# Altium schematic symbol library pporyzala-TI_Lighting.SchLib: 745 symbols (part 11 of 48)
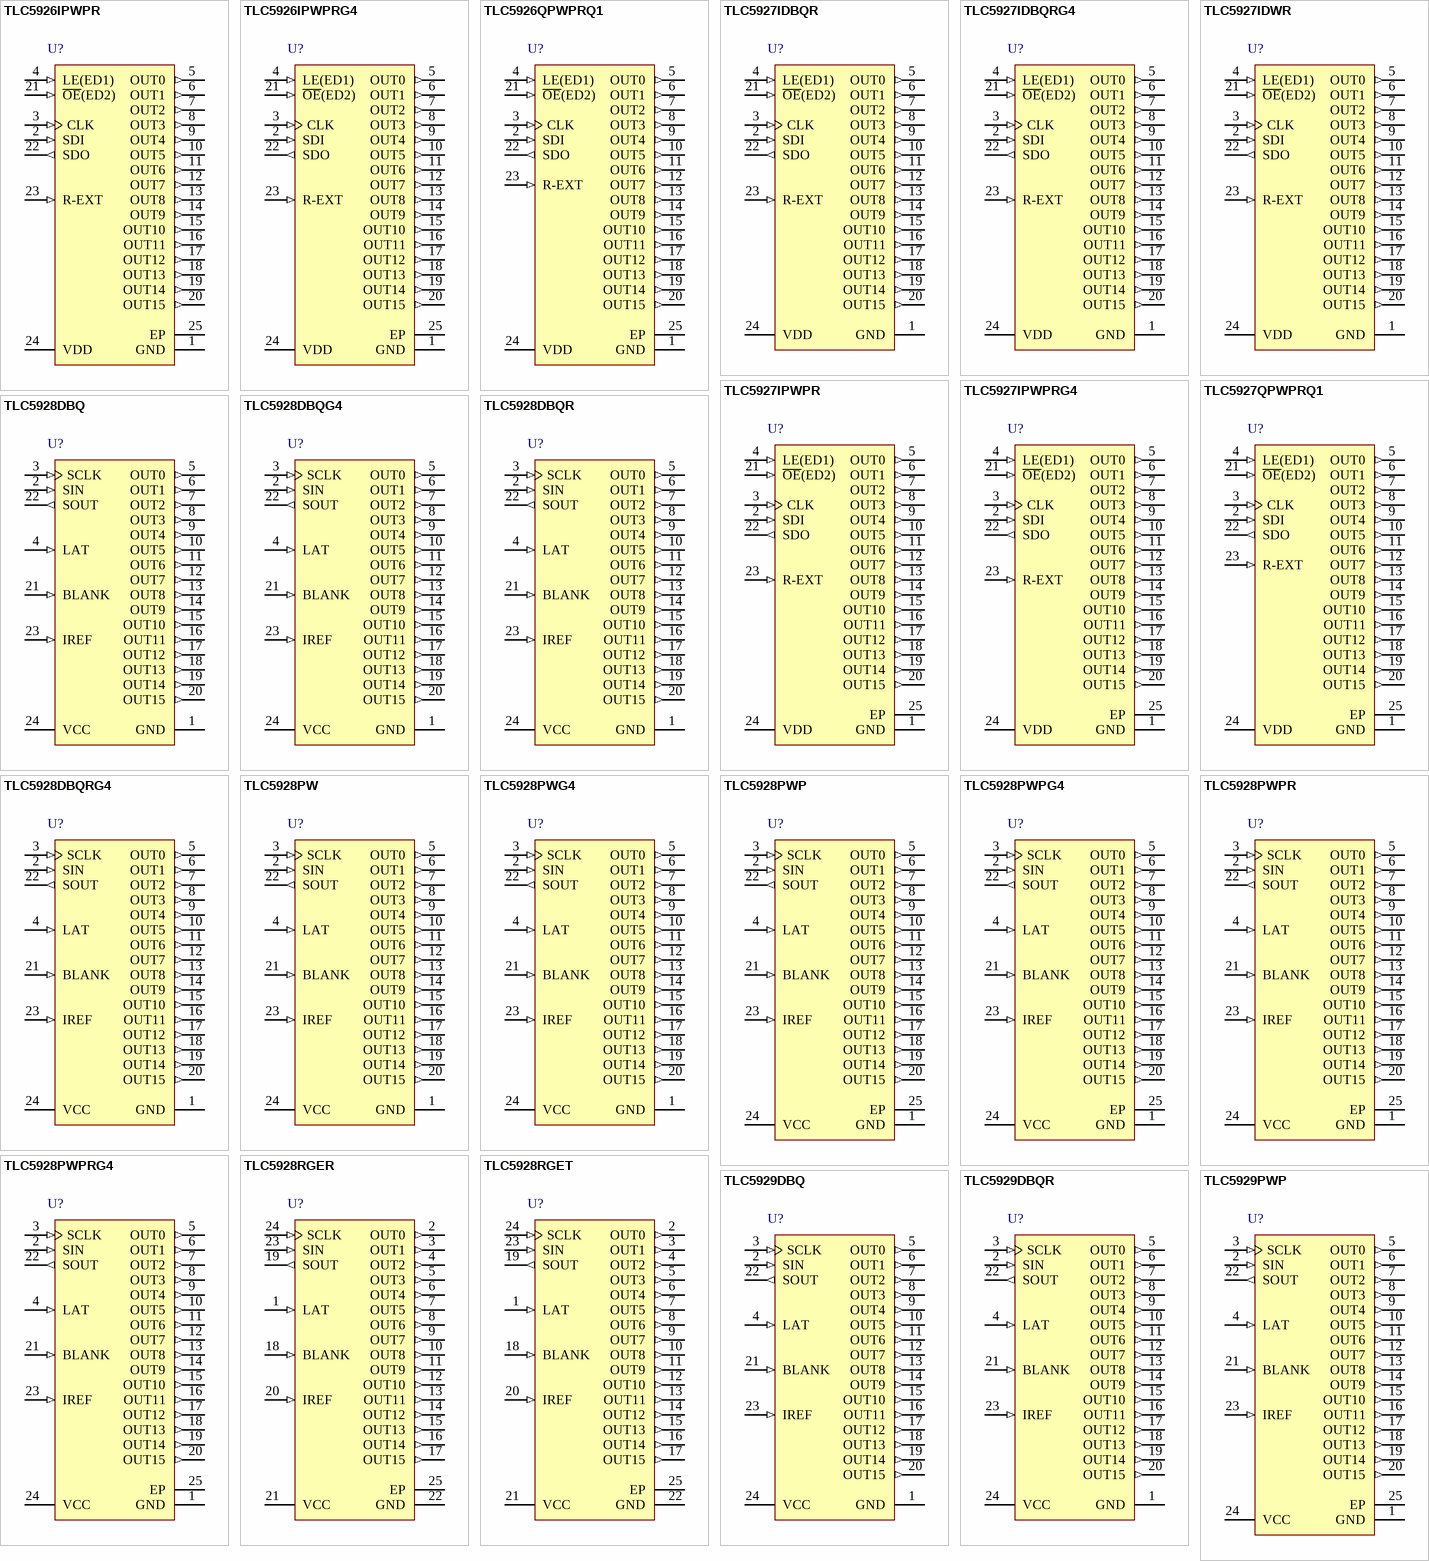
[diagram p41: symbols TLC5926IPWPR to TLC5929PWP]

## TLC5929PWP
designator U?
16-Channel Constant Current LED Driver with 7-Bit Global Brightness, Power-Save, and Self-Diagnostics, 3 to 5.5 V, -40 to 85 degC, 24-pin SOP (PWP24), Green (RoHS & no Sb/Br); Manufacturer: Texas Instruments; PartNumber: TLC5929PWP; Rating: Catalog; SubFamily: Signage/Linear; Vin(Max)(V): 5.5; Vin(Min)(V): 3; DatasheetVersion: SBVS159B; PackageVersion: 4073225-5/I; PackageReference: PWP24-4420X1950TP; PackageDescription: 24-Lead, Plastic Small Outline, Body Size 4.4 x 7.8 mm, Pitch 0.65 mm; Supplier 1: Digi-Key; Supplier Part Number 1: 296-28534-5-ND; Supplier 2: Mouser; Supplier Part Number 2: 595-TLC5929PWP; Eco-Plan: Green (RoHS & no Sb/Br); Mounting Technology: Surface Mount; Code_JEDEC: MO-153; ComponentLink1Description: Manufacturer URL; ComponentLink1URL: http://www.ti.com/; ComponentLink2Description: Datasheet; ComponentLink2URL: http://www.ti.com/general/docs/lit/getliterature.tsp?genericPartNumber=TLC5929&fileType=pdf; ComponentLink3Description: Package Specification; ComponentLink3URL: http://www.ti.com/lit/ds/symlink/tps65101.pdf
footprint TI-PWP24-4420X1950TP_N (SOP, 24-Leads, Body 7.8x4.4mm, Pitch 0.65mm, Thermal Pad 4.42x1.95mm, IPC Medium Density)
footprint TI-PWP24-4420X1950TP_L (SOP, 24-Leads, Body 7.8x4.4mm, Pitch 0.65mm, Thermal Pad 4.42x1.95mm, IPC High Density)
footprint TI-PWP24-4420X1950TP_M (SOP, 24-Leads, Body 7.8x4.4mm, Pitch 0.65mm, Thermal Pad 4.42x1.95mm, IPC Low Density)
pins: 1 GND (power) "Ground", 2 SIN (in) "Serial data input for the 17-bit common shift register .When SIN is high, a '1' is written to the LSB of the common shift register at the rising edge of SCLK.", 3 SCLK (in) "Serial data shift clock. Data present on SIN are shifted to the LSB of the 17-bit shift register with the SCLK rising edge. Data in the shift register are shifted toward the MSB at each SCLK rising edge. The MSB data of the (See Datasheet)", 4 LAT (in) "Data latch. The rising edge of LAT latches the data from the common shift register into the output on/off data latch. At the same time,the data in the common shift register are replaced with  SID,which is selected by SIDLD.(See Datasheet)", 5 OUT0 (out) "Constant-current sink outputs. Multiple outputs can be configured in parallel to increase the constant-current capability. Different voltages can be applied to each output.", 6 OUT1 (out) "Constant-current sink outputs. Multiple outputs can be configured in parallel to increase the constant-current capability. Different voltages can be applied to each output.", 7 OUT2 (out) "Constant-current sink outputs. Multiple outputs can be configured in parallel to increase the constant-current capability. Different voltages can be applied to each output.", 8 OUT3 (out) "Constant-current sink outputs. Multiple outputs can be configured in parallel to increase the constant-current capability. Different voltages can be applied to each output.", 9 OUT4 (out) "Constant-current sink outputs. Multiple outputs can be configured in parallel to increase the constant-current capability. Different voltages can be applied to each output.", 10 OUT5 (out) "Constant-current sink outputs. Multiple outputs can be configured in parallel to increase the constant-current capability. Different voltages can be applied to each output.", 11 OUT6 (out) "Constant-current sink outputs. Multiple outputs can be configured in parallel to increase the constant-current capability. Different voltages can be applied to each output.", 12 OUT7 (out) "Constant-current sink outputs. Multiple outputs can be configured in parallel to increase the constant-current capability. Different voltages can be applied to each output.", 13 OUT8 (out) "Constant-current sink outputs. Multiple outputs can be configured in parallel to increase the constant-current capability. Different voltages can be applied to each output.", 14 OUT9 (out) "Constant-current sink outputs. Multiple outputs can be configured in parallel to increase the constant-current capability. Different voltages can be applied to each output.", 15 OUT10 (out) "Constant-current sink outputs. Multiple outputs can be configured in parallel to increase the constant-current capability. Different voltages can be applied to each output.", 16 OUT11 (out) "Constant-current sink outputs. Multiple outputs can be configured in parallel to increase the constant-current capability. Different voltages can be applied to each output.", 17 OUT12 (out) "Constant-current sink outputs. Multiple outputs can be configured in parallel to increase the constant-current capability. Different voltages can be applied to each output.", 18 OUT13 (out) "Constant-current sink outputs. Multiple outputs can be configured in parallel to increase the constant-current capability. Different voltages can be applied to each output.", 19 OUT14 (out) "Constant-current sink outputs. Multiple outputs can be configured in parallel to increase the constant-current capability. Different voltages can be applied to each output.", 20 OUT15 (out) "Constant-current sink outputs. Multiple outputs can be configured in parallel to increase the constant-current capability. Different voltages can be applied to each output.", 21 BLANK (in) "Blank all outputs. When BLANK is high, all constant-current outputs (OUT0 to OUT15) are forced off. When BLANK is low, all constant-current outputs are controlled by the on/off control data in the data latch.", 22 SOUT (out) "Serial data output of  the 17-bit common shift register .SOUT is connected to the MSB of the 17-bit shift register.Data are clocked out at the rising edge of SCLK.", 23 IREF (in) "Maximum current programming terminal. A resistor connected between IREF and GND sets the maximum current for every constant-current output. When this terminal is directly connected to GND,all outputs are forced off.The (See Datasheet)", 24 VCC (power) "Power-supply voltage", 25 EP

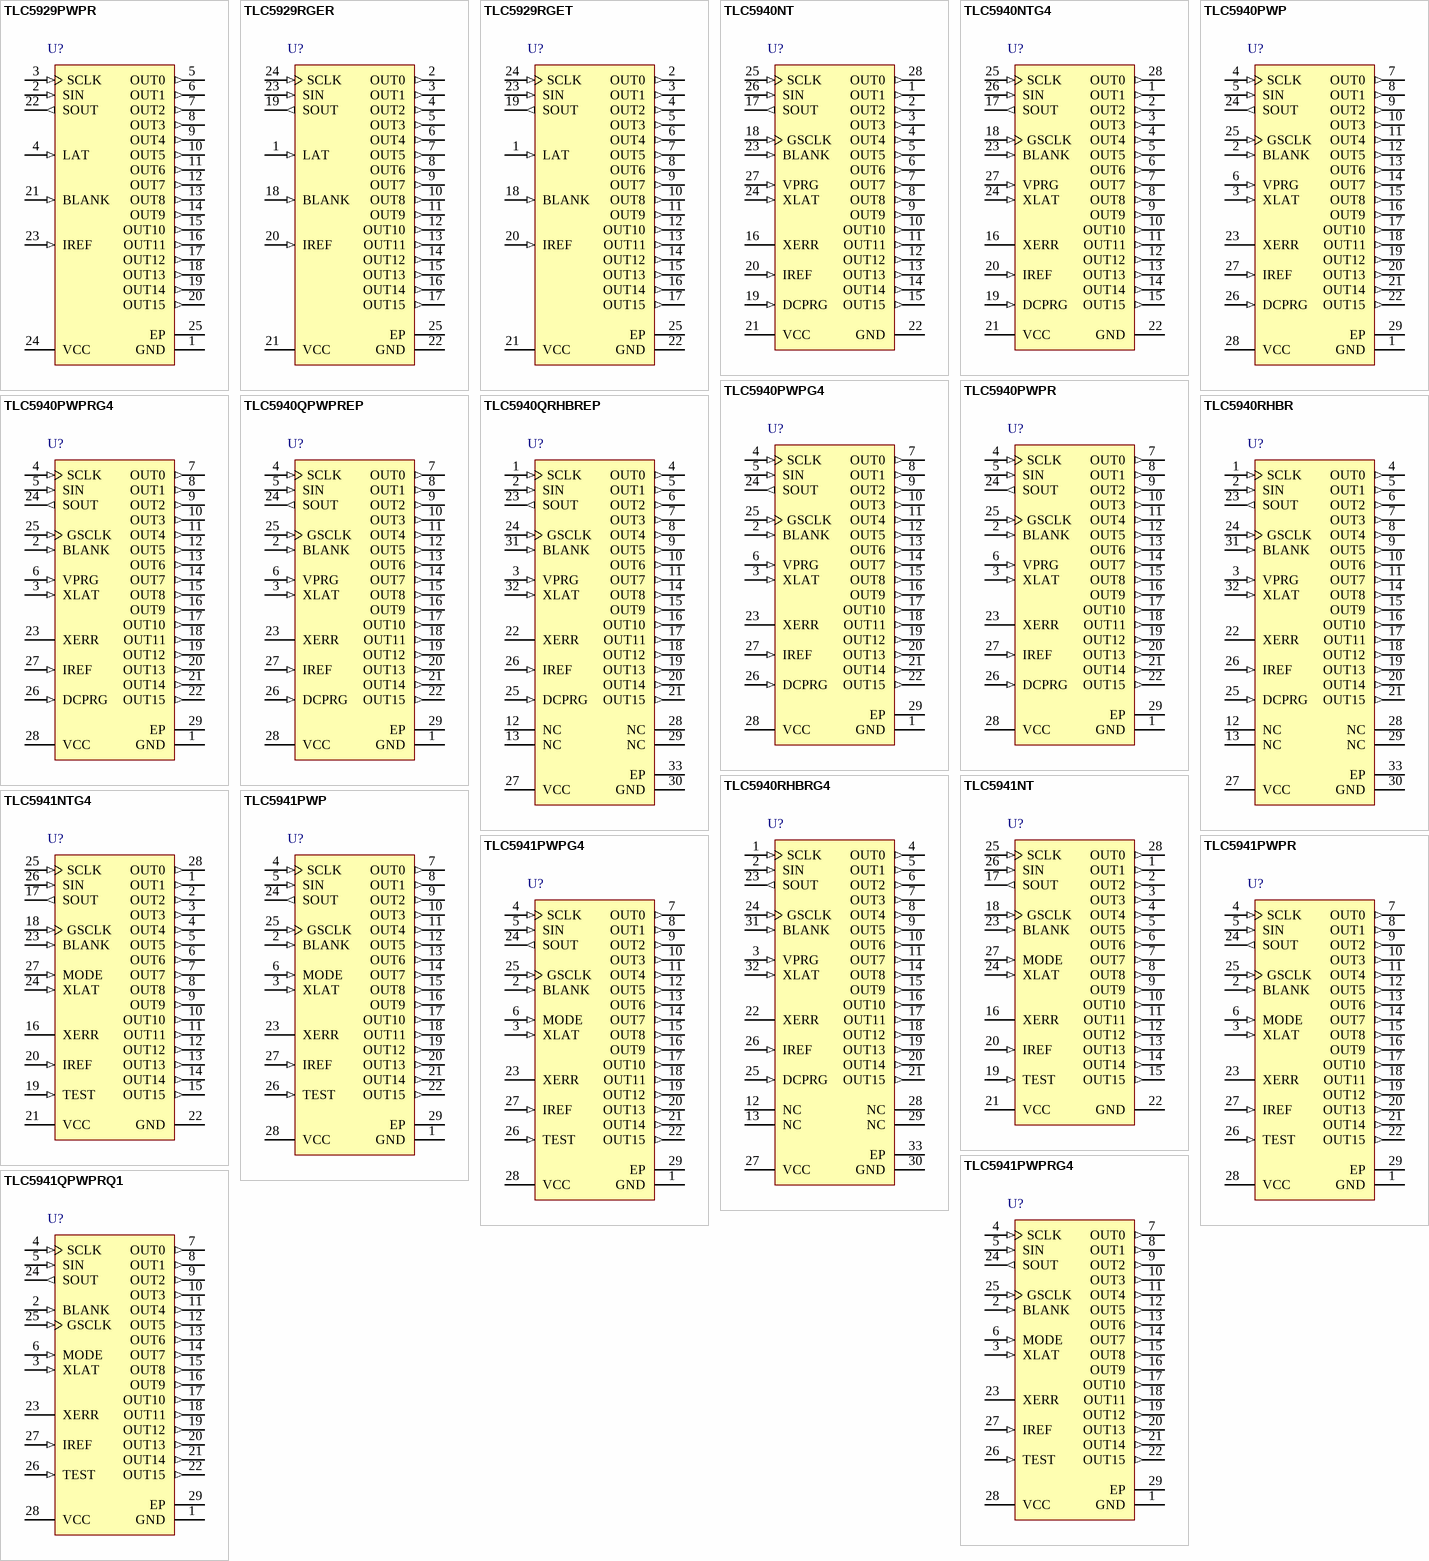
[diagram p8: symbols TLC5929PWPR to TLC5941QPWPRQ1]

## TLC5929PWPR
designator U?
16-Channel Constant Current LED Driver with 7-Bit Global Brightness, Power-Save, and Self-Diagnostics, 3 to 5.5 V, -40 to 85 degC, 24-pin SOP (PWP24), Green (RoHS & no Sb/Br); Manufacturer: Texas Instruments; PartNumber: TLC5929PWPR; Rating: Catalog; SubFamily: Signage/Linear; Vin(Max)(V): 5.5; Vin(Min)(V): 3; DatasheetVersion: SBVS159B; PackageVersion: 4073225-5/I; PackageReference: PWP24-4420X1950TP; PackageDescription: 24-Lead, Plastic Small Outline, Body Size 4.4 x 7.8 mm, Pitch 0.65 mm; Supplier 1: Digi-Key; Supplier Part Number 1: TLC5929PWPR-ND; Supplier 2: Mouser; Supplier Part Number 2: 595-TLC5929PWPR; Eco-Plan: Green (RoHS & no Sb/Br); Mounting Technology: Surface Mount; Code_JEDEC: MO-153; ComponentLink1Description: Manufacturer URL; ComponentLink1URL: http://www.ti.com/; ComponentLink2Description: Datasheet; ComponentLink2URL: http://www.ti.com/general/docs/lit/getliterature.tsp?genericPartNumber=TLC5929&fileType=pdf; ComponentLink3Description: Package Specification; ComponentLink3URL: http://www.ti.com/lit/ds/symlink/tps65101.pdf
footprint TI-PWP24-4420X1950TP_N (SOP, 24-Leads, Body 7.8x4.4mm, Pitch 0.65mm, Thermal Pad 4.42x1.95mm, IPC Medium Density)
footprint TI-PWP24-4420X1950TP_L (SOP, 24-Leads, Body 7.8x4.4mm, Pitch 0.65mm, Thermal Pad 4.42x1.95mm, IPC High Density)
footprint TI-PWP24-4420X1950TP_M (SOP, 24-Leads, Body 7.8x4.4mm, Pitch 0.65mm, Thermal Pad 4.42x1.95mm, IPC Low Density)
pins: 1 GND (power) "Ground", 2 SIN (in) "Serial data input for the 17-bit common shift register .When SIN is high, a '1' is written to the LSB of the common shift register at the rising edge of SCLK.", 3 SCLK (in) "Serial data shift clock. Data present on SIN are shifted to the LSB of the 17-bit shift register with the SCLK rising edge. Data in the shift register are shifted toward the MSB at each SCLK rising edge. The MSB data of the (See Datasheet)", 4 LAT (in) "Data latch. The rising edge of LAT latches the data from the common shift register into the output on/off data latch. At the same time,the data in the common shift register are replaced with  SID,which is selected by SIDLD.(See Datasheet)", 5 OUT0 (out) "Constant-current sink outputs. Multiple outputs can be configured in parallel to increase the constant-current capability. Different voltages can be applied to each output.", 6 OUT1 (out) "Constant-current sink outputs. Multiple outputs can be configured in parallel to increase the constant-current capability. Different voltages can be applied to each output.", 7 OUT2 (out) "Constant-current sink outputs. Multiple outputs can be configured in parallel to increase the constant-current capability. Different voltages can be applied to each output.", 8 OUT3 (out) "Constant-current sink outputs. Multiple outputs can be configured in parallel to increase the constant-current capability. Different voltages can be applied to each output.", 9 OUT4 (out) "Constant-current sink outputs. Multiple outputs can be configured in parallel to increase the constant-current capability. Different voltages can be applied to each output.", 10 OUT5 (out) "Constant-current sink outputs. Multiple outputs can be configured in parallel to increase the constant-current capability. Different voltages can be applied to each output.", 11 OUT6 (out) "Constant-current sink outputs. Multiple outputs can be configured in parallel to increase the constant-current capability. Different voltages can be applied to each output.", 12 OUT7 (out) "Constant-current sink outputs. Multiple outputs can be configured in parallel to increase the constant-current capability. Different voltages can be applied to each output.", 13 OUT8 (out) "Constant-current sink outputs. Multiple outputs can be configured in parallel to increase the constant-current capability. Different voltages can be applied to each output.", 14 OUT9 (out) "Constant-current sink outputs. Multiple outputs can be configured in parallel to increase the constant-current capability. Different voltages can be applied to each output.", 15 OUT10 (out) "Constant-current sink outputs. Multiple outputs can be configured in parallel to increase the constant-current capability. Different voltages can be applied to each output.", 16 OUT11 (out) "Constant-current sink outputs. Multiple outputs can be configured in parallel to increase the constant-current capability. Different voltages can be applied to each output.", 17 OUT12 (out) "Constant-current sink outputs. Multiple outputs can be configured in parallel to increase the constant-current capability. Different voltages can be applied to each output.", 18 OUT13 (out) "Constant-current sink outputs. Multiple outputs can be configured in parallel to increase the constant-current capability. Different voltages can be applied to each output.", 19 OUT14 (out) "Constant-current sink outputs. Multiple outputs can be configured in parallel to increase the constant-current capability. Different voltages can be applied to each output.", 20 OUT15 (out) "Constant-current sink outputs. Multiple outputs can be configured in parallel to increase the constant-current capability. Different voltages can be applied to each output.", 21 BLANK (in) "Blank all outputs. When BLANK is high, all constant-current outputs (OUT0 to OUT15) are forced off. When BLANK is low, all constant-current outputs are controlled by the on/off control data in the data latch.", 22 SOUT (out) "Serial data output of  the 17-bit common shift register .SOUT is connected to the MSB of the 17-bit shift register.Data are clocked out at the rising edge of SCLK.", 23 IREF (in) "Maximum current programming terminal. A resistor connected between IREF and GND sets the maximum current for every constant-current output. When this terminal is directly connected to GND,all outputs are forced off.The (See Datasheet)", 24 VCC (power) "Power-supply voltage", 25 EP

## TLC5929RGER
designator U?
16-Channel Constant Current LED Driver with 7-Bit Global Brightness, Power-Save, and Self-Diagnostics, 3 to 5.5 V, -40 to 85 degC, 24-pin QFN (RGE24), Green (RoHS & no Sb/Br); Manufacturer: Texas Instruments; PartNumber: TLC5929RGER; Rating: Catalog; SubFamily: Signage/Linear; Vin(Max)(V): 5.5; Vin(Min)(V): 3; DatasheetVersion: SBVS159B; PackageVersion: 4204104/G; PackageReference: RGE24-2450X2450TP; PackageDescription: 24-Pin Plastic Flat Pack, Body 4 x 4 mm, 0.5 mm Pitch; Supplier 1: Digi-Key; Supplier Part Number 1: 296-29699-2-ND; Supplier 2: Digi-Key; Supplier Part Number 2: 296-29699-1-ND; Supplier 3: Digi-Key; Supplier Part Number 3: 296-29699-6-ND; Supplier 4: Mouser; Supplier Part Number 4: 595-TLC5929RGER; Eco-Plan: Green (RoHS & no Sb/Br); Mounting Technology: Surface Mount; Code_JEDEC: MO-220; ComponentLink1Description: Manufacturer URL; ComponentLink1URL: http://www.ti.com/; ComponentLink2Description: Datasheet; ComponentLink2URL: http://www.ti.com/general/docs/lit/getliterature.tsp?genericPartNumber=TLC5929&fileType=pdf; ComponentLink3Description: Package Specification; ComponentLink3URL: http://www.ti.com/litv/pdf/mpqf124f
footprint TI-RGE24-2450X2450TP_V (QFN, 24-Leads, Body 4x4mm, Pitch 0.5mm, Thermal Pad 2.45x2.45mm)
pins: 1 LAT (in) "Data latch. The rising edge of LAT latches the data from the common shift register into the output on/off data latch. At the same time,the data in the common shift register are replaced with  SID,which is selected by SIDLD.(See Datasheet)", 2 OUT0 (out) "Constant-current sink outputs. Multiple outputs can be configured in parallel to increase the constant-current capability. Different voltages can be applied to each output.", 3 OUT1 (out) "Constant-current sink outputs. Multiple outputs can be configured in parallel to increase the constant-current capability. Different voltages can be applied to each output.", 4 OUT2 (out) "Constant-current sink outputs. Multiple outputs can be configured in parallel to increase the constant-current capability. Different voltages can be applied to each output.", 5 OUT3 (out) "Constant-current sink outputs. Multiple outputs can be configured in parallel to increase the constant-current capability. Different voltages can be applied to each output.", 6 OUT4 (out) "Constant-current sink outputs. Multiple outputs can be configured in parallel to increase the constant-current capability. Different voltages can be applied to each output.", 7 OUT5 (out) "Constant-current sink outputs. Multiple outputs can be configured in parallel to increase the constant-current capability. Different voltages can be applied to each output.", 8 OUT6 (out) "Constant-current sink outputs. Multiple outputs can be configured in parallel to increase the constant-current capability. Different voltages can be applied to each output.", 9 OUT7 (out) "Constant-current sink outputs. Multiple outputs can be configured in parallel to increase the constant-current capability. Different voltages can be applied to each output.", 10 OUT8 (out) "Constant-current sink outputs. Multiple outputs can be configured in parallel to increase the constant-current capability. Different voltages can be applied to each output.", 11 OUT9 (out) "Constant-current sink outputs. Multiple outputs can be configured in parallel to increase the constant-current capability. Different voltages can be applied to each output.", 12 OUT10 (out) "Constant-current sink outputs. Multiple outputs can be configured in parallel to increase the constant-current capability. Different voltages can be applied to each output.", 13 OUT11 (out) "Constant-current sink outputs. Multiple outputs can be configured in parallel to increase the constant-current capability. Different voltages can be applied to each output.", 14 OUT12 (out) "Constant-current sink outputs. Multiple outputs can be configured in parallel to increase the constant-current capability. Different voltages can be applied to each output.", 15 OUT13 (out) "Constant-current sink outputs. Multiple outputs can be configured in parallel to increase the constant-current capability. Different voltages can be applied to each output.", 16 OUT14 (out) "Constant-current sink outputs. Multiple outputs can be configured in parallel to increase the constant-current capability. Different voltages can be applied to each output.", 17 OUT15 (out) "Constant-current sink outputs. Multiple outputs can be configured in parallel to increase the constant-current capability. Different voltages can be applied to each output.", 18 BLANK (in) "Blank all outputs. When BLANK is high, all constant-current outputs (OUT0 to OUT15) are forced off. When BLANK is low, all constant-current outputs are controlled by the on/off control data in the data latch.", 19 SOUT (out) "Serial data output of  the 17-bit common shift register .SOUT is connected to the MSB of the 17-bit shift register.Data are clocked out at the rising edge of SCLK.", 20 IREF (in) "Maximum current programming terminal. A resistor connected between IREF and GND sets the maximum current for every constant-current output. When this terminal is directly connected to GND,all outputs are forced off.The (See Datasheet)", 21 VCC (power) "Power-supply voltage", 22 GND (power) "Ground", 23 SIN (in) "Serial data input for the 17-bit common shift register .When SIN is high, a '1' is written to the LSB of the common shift register at the rising edge of SCLK.", 24 SCLK (in) "Serial data shift clock. Data present on SIN are shifted to the LSB of the 17-bit shift register with the SCLK rising edge. Data in the shift register are shifted toward the MSB at each SCLK rising edge. The MSB data of the (See Datasheet)", 25 EP

## TLC5929RGET
designator U?
16-Channel Constant Current LED Driver with 7-Bit Global Brightness, Power-Save, and Self-Diagnostics, 3 to 5.5 V, -40 to 85 degC, 24-pin QFN (RGE24), Green (RoHS & no Sb/Br); Manufacturer: Texas Instruments; PartNumber: TLC5929RGET; Rating: Catalog; SubFamily: Signage/Linear; Vin(Max)(V): 5.5; Vin(Min)(V): 3; DatasheetVersion: SBVS159B; PackageVersion: 4204104/G; PackageReference: RGE24-2450X2450TP; PackageDescription: 24-Pin Plastic Flat Pack, Body 4 x 4 mm, 0.5 mm Pitch; Supplier 1: Digi-Key; Supplier Part Number 1: TLC5929RGET-ND; Supplier 2: Mouser; Supplier Part Number 2: 595-TLC5929RGET; Eco-Plan: Green (RoHS & no Sb/Br); Mounting Technology: Surface Mount; Code_JEDEC: MO-220; ComponentLink1Description: Manufacturer URL; ComponentLink1URL: http://www.ti.com/; ComponentLink2Description: Datasheet; ComponentLink2URL: http://www.ti.com/general/docs/lit/getliterature.tsp?genericPartNumber=TLC5929&fileType=pdf; ComponentLink3Description: Package Specification; ComponentLink3URL: http://www.ti.com/litv/pdf/mpqf124f
footprint TI-RGE24-2450X2450TP_V (QFN, 24-Leads, Body 4x4mm, Pitch 0.5mm, Thermal Pad 2.45x2.45mm)
pins: 1 LAT (in) "Data latch. The rising edge of LAT latches the data from the common shift register into the output on/off data latch. At the same time,the data in the common shift register are replaced with  SID,which is selected by SIDLD.(See Datasheet)", 2 OUT0 (out) "Constant-current sink outputs. Multiple outputs can be configured in parallel to increase the constant-current capability. Different voltages can be applied to each output.", 3 OUT1 (out) "Constant-current sink outputs. Multiple outputs can be configured in parallel to increase the constant-current capability. Different voltages can be applied to each output.", 4 OUT2 (out) "Constant-current sink outputs. Multiple outputs can be configured in parallel to increase the constant-current capability. Different voltages can be applied to each output.", 5 OUT3 (out) "Constant-current sink outputs. Multiple outputs can be configured in parallel to increase the constant-current capability. Different voltages can be applied to each output.", 6 OUT4 (out) "Constant-current sink outputs. Multiple outputs can be configured in parallel to increase the constant-current capability. Different voltages can be applied to each output.", 7 OUT5 (out) "Constant-current sink outputs. Multiple outputs can be configured in parallel to increase the constant-current capability. Different voltages can be applied to each output.", 8 OUT6 (out) "Constant-current sink outputs. Multiple outputs can be configured in parallel to increase the constant-current capability. Different voltages can be applied to each output.", 9 OUT7 (out) "Constant-current sink outputs. Multiple outputs can be configured in parallel to increase the constant-current capability. Different voltages can be applied to each output.", 10 OUT8 (out) "Constant-current sink outputs. Multiple outputs can be configured in parallel to increase the constant-current capability. Different voltages can be applied to each output.", 11 OUT9 (out) "Constant-current sink outputs. Multiple outputs can be configured in parallel to increase the constant-current capability. Different voltages can be applied to each output.", 12 OUT10 (out) "Constant-current sink outputs. Multiple outputs can be configured in parallel to increase the constant-current capability. Different voltages can be applied to each output.", 13 OUT11 (out) "Constant-current sink outputs. Multiple outputs can be configured in parallel to increase the constant-current capability. Different voltages can be applied to each output.", 14 OUT12 (out) "Constant-current sink outputs. Multiple outputs can be configured in parallel to increase the constant-current capability. Different voltages can be applied to each output.", 15 OUT13 (out) "Constant-current sink outputs. Multiple outputs can be configured in parallel to increase the constant-current capability. Different voltages can be applied to each output.", 16 OUT14 (out) "Constant-current sink outputs. Multiple outputs can be configured in parallel to increase the constant-current capability. Different voltages can be applied to each output.", 17 OUT15 (out) "Constant-current sink outputs. Multiple outputs can be configured in parallel to increase the constant-current capability. Different voltages can be applied to each output.", 18 BLANK (in) "Blank all outputs. When BLANK is high, all constant-current outputs (OUT0 to OUT15) are forced off. When BLANK is low, all constant-current outputs are controlled by the on/off control data in the data latch.", 19 SOUT (out) "Serial data output of  the 17-bit common shift register .SOUT is connected to the MSB of the 17-bit shift register.Data are clocked out at the rising edge of SCLK.", 20 IREF (in) "Maximum current programming terminal. A resistor connected between IREF and GND sets the maximum current for every constant-current output. When this terminal is directly connected to GND,all outputs are forced off.The (See Datasheet)", 21 VCC (power) "Power-supply voltage", 22 GND (power) "Ground", 23 SIN (in) "Serial data input for the 17-bit common shift register .When SIN is high, a '1' is written to the LSB of the common shift register at the rising edge of SCLK.", 24 SCLK (in) "Serial data shift clock. Data present on SIN are shifted to the LSB of the 17-bit shift register with the SCLK rising edge. Data in the shift register are shifted toward the MSB at each SCLK rising edge. The MSB data of the (See Datasheet)", 25 EP

## TLC5940NT
designator U?
16-Channel LED Driver with EEprom DOT Correction & Grayscale PWM Control, 3 to 5.5 V, -40 to 85 degC, 28-pin DIP (NT28), Green (RoHS & no Sb/Br); Manufacturer: Texas Instruments; PartNumber: TLC5940NT; Rating: Catalog; Vin(Max)(V): 5.5; Vin(Min)(V): 3; DatasheetVersion: SLVS515C; PackageVersion: 4040050/C; PackageReference: NT28; PackageDescription: 28-Lead, Plastic In-Line, Body Size 35.69 x 6.73 mm, Pitch 2.54 mm; Supplier 1: Digi-Key; Supplier Part Number 1: 296-17732-5-ND; Supplier 2: Farnell; Supplier Part Number 2: 1411383; Supplier 3: Newark; Supplier Part Number 3: 73J8328; Supplier 4: Mouser; Supplier Part Number 4: 595-TLC5940NT; Eco-Plan: Green (RoHS & no Sb/Br); SubFamily: LED Driver; Mounting Technology: Through Hole; ComponentLink1Description: Manufacturer URL; ComponentLink1URL: http://www.ti.com/; ComponentLink2Description: Datasheet; ComponentLink2URL: http://www.ti.com/general/docs/lit/getliterature.tsp?genericPartNumber=TLC5940&fileType=pdf; ComponentLink3Description: Package Specification; ComponentLink3URL: http://www.ti.com/lit/ml/mpdi004a/mpdi004a.pdf
footprint TI-NT28 (DIP, 28-Leads, Body 35.69x6.73mm, Pitch 2.54mm)
pins: 1 OUT1 (out) "Constant current output", 2 OUT2 (out) "Constant current output", 3 OUT3 (out) "Constant current output", 4 OUT4 (out) "Constant current output", 5 OUT5 (out) "Constant current output", 6 OUT6 (out) "Constant current output", 7 OUT7 (out) "Constant current output", 8 OUT8 (out) "Constant current output", 9 OUT9 (out) "Constant current output", 10 OUT10 (out) "Constant current output", 11 OUT11 (out) "Constant current output", 12 OUT12 (out) "Constant current output", 13 OUT13 (out) "Constant current output", 14 OUT14 (out) "Constant current output", 15 OUT15 (out) "Constant current output", 16 XERR (hiz) "Error output. XERR is an open-drain terminal. XERR goes L when LOD or TEF is detected.", 17 SOUT (out) "Serial data output", 18 GSCLK (in) "Reference clock for grayscale PWM control", 19 DCPRG (in) "Switch DC data input. When DCPRG = L, DC is connected to EEPROM. When DCPRG = H, DC is connected to the DC register. DCPRG also controls EEPROM writing, when VPRG = V(PRG). EEPROM data = 3Fh (default)", 20 IREF (in) "Reference current terminal", 21 VCC (power) "Power supply voltage", 22 GND (power) "Ground", 23 BLANK (in) "Blank all outputs.When BLANK = H,all OUTn outputs are forced OFF.GS counter is also reset. When BLANK=L,OUTn are controlled by grayscale PWM control.", 24 XLAT (in) "Level triggered latch signal. When XLAT = high, the TLC5940 writes data from the input shift register to either GS register (VPRG = low) or DC register (VPRG = high). When XLAT = low, the data in GS or DC register is held (See Datasheet)", 25 SCLK (in) "Serial data shift clock", 26 SIN (in) "Serial data input", 27 VPRG (in) "Multifunction input pin. When VPRG = GND, the device is in GS mode. When VPRG = VCC, the device is in DC mode. When VPRG = V(VPRG), DC register data can programmed into DC EEPROM with DCPRG=HIGH. EEPROM data = 3Fh (default)", 28 OUT0 (out) "Constant current output"

## TLC5940NTG4
designator U?
16-Channel LED Driver with EEprom DOT Correction & Grayscale PWM Control, 3 to 5.5 V, -40 to 85 degC, 28-pin DIP (NT28), Green (RoHS & no Sb/Br); Manufacturer: Texas Instruments; PartNumber: TLC5940NTG4; Rating: Catalog; Vin(Max)(V): 5.5; Vin(Min)(V): 3; DatasheetVersion: SLVS515C; PackageVersion: 4040050/C; PackageReference: NT28; PackageDescription: 28-Lead, Plastic In-Line, Body Size 35.69 x 6.73 mm, Pitch 2.54 mm; Supplier 1: Digi-Key; Supplier Part Number 1: TLC5940NTG4-ND; Supplier 2: Farnell; Supplier Part Number 2: 1226306; Supplier 3: Newark; Supplier Part Number 3: 05M1394; Supplier 4: Newark; Supplier Part Number 4: 73K9547; Supplier 5: Mouser; Supplier Part Number 5: 595-TLC5940NTG4; Eco-Plan: Green (RoHS & no Sb/Br); SubFamily: LED Driver; Mounting Technology: Through Hole; ComponentLink1Description: Manufacturer URL; ComponentLink1URL: http://www.ti.com/; ComponentLink2Description: Datasheet; ComponentLink2URL: http://www.ti.com/general/docs/lit/getliterature.tsp?genericPartNumber=TLC5940&fileType=pdf; ComponentLink3Description: Package Specification; ComponentLink3URL: http://www.ti.com/lit/ml/mpdi004a/mpdi004a.pdf
footprint TI-NT28 (DIP, 28-Leads, Body 35.69x6.73mm, Pitch 2.54mm)
pins: 1 OUT1 (out) "Constant current output", 2 OUT2 (out) "Constant current output", 3 OUT3 (out) "Constant current output", 4 OUT4 (out) "Constant current output", 5 OUT5 (out) "Constant current output", 6 OUT6 (out) "Constant current output", 7 OUT7 (out) "Constant current output", 8 OUT8 (out) "Constant current output", 9 OUT9 (out) "Constant current output", 10 OUT10 (out) "Constant current output", 11 OUT11 (out) "Constant current output", 12 OUT12 (out) "Constant current output", 13 OUT13 (out) "Constant current output", 14 OUT14 (out) "Constant current output", 15 OUT15 (out) "Constant current output", 16 XERR (hiz) "Error output. XERR is an open-drain terminal. XERR goes L when LOD or TEF is detected.", 17 SOUT (out) "Serial data output", 18 GSCLK (in) "Reference clock for grayscale PWM control", 19 DCPRG (in) "Switch DC data input. When DCPRG = L, DC is connected to EEPROM. When DCPRG = H, DC is connected to the DC register. DCPRG also controls EEPROM writing, when VPRG = V(PRG). EEPROM data = 3Fh (default)", 20 IREF (in) "Reference current terminal", 21 VCC (power) "Power supply voltage", 22 GND (power) "Ground", 23 BLANK (in) "Blank all outputs.When BLANK = H,all OUTn outputs are forced OFF.GS counter is also reset. When BLANK=L,OUTn are controlled by grayscale PWM control.", 24 XLAT (in) "Level triggered latch signal. When XLAT = high, the TLC5940 writes data from the input shift register to either GS register (VPRG = low) or DC register (VPRG = high). When XLAT = low, the data in GS or DC register is held (See Datasheet)", 25 SCLK (in) "Serial data shift clock", 26 SIN (in) "Serial data input", 27 VPRG (in) "Multifunction input pin. When VPRG = GND, the device is in GS mode. When VPRG = VCC, the device is in DC mode. When VPRG = V(VPRG), DC register data can programmed into DC EEPROM with DCPRG=HIGH. EEPROM data = 3Fh (default)", 28 OUT0 (out) "Constant current output"

## TLC5940PWP
designator U?
16-Channel LED Driver with EEprom DOT Correction & Grayscale PWM Control, 3 to 5.5 V, -40 to 85 degC, 28-pin SOP (PWP28), Green (RoHS & no Sb/Br); Manufacturer: Texas Instruments; PartNumber: TLC5940PWP; Rating: Catalog; Vin(Max)(V): 5.5; Vin(Min)(V): 3; DatasheetVersion: SLVS515C; PackageVersion: 4073225-6/I; PackageReference: PWP28-5720X1950TP; PackageDescription: 28-Pin Plastic Small Outline, Body 4.4 x 9.7 mm, Pitch 0.65 mm; Supplier 1: Digi-Key; Supplier Part Number 1: 296-17733-5-ND; Supplier 2: Newark; Supplier Part Number 2: 08K4866; Supplier 3: Mouser; Supplier Part Number 3: 595-TLC5940PWP; Eco-Plan: Green (RoHS & no Sb/Br); SubFamily: LED Driver; Mounting Technology: Surface Mount; Code_JEDEC: MO-153; ComponentLink1Description: Manufacturer URL; ComponentLink1URL: http://www.ti.com/; ComponentLink2Description: Datasheet; ComponentLink2URL: http://www.ti.com/general/docs/lit/getliterature.tsp?genericPartNumber=TLC5940&fileType=pdf; ComponentLink3Description: Package Specification; ComponentLink3URL: http://www.ti.com/litv/pdf/mpds373
footprint TI-PWP28-5720X1950TP_N (SOP, 28-Leads, Body 9.7x4.4mm, Pitch 0.65mm, Thermal Pad 5.72 x 1.95mm, IPC Medium Density)
footprint TI-PWP28-5720X1950TP_L (SOP, 28-Leads, Body 9.7x4.4mm, Pitch 0.65mm, Thermal Pad 5.72 x 1.95mm, IPC High Density)
footprint TI-PWP28-5720X1950TP_M (SOP, 28-Leads, Body 9.7x4.4mm, Pitch 0.65mm, Thermal Pad 5.72 x 1.95mm, IPC Low Density)
pins: 1 GND (power) "Ground", 2 BLANK (in) "Blank all outputs. When BLANK = H, all OUTn outputs are forced OFF. GS counter is also reset. When BLANK = L, OUTn are controlled by grayscale PWM control.", 3 XLAT (in) "Level triggered latch signal. When XLAT = high, the TLC5940 writes data from the input shift register to either GS register (VPRG = low) or DC register (VPRG = high). When XLAT = low, the data in GS or DC register is held (See Datasheet)", 4 SCLK (in) "Serial data shift clock", 5 SIN (in) "Serial data input", 6 VPRG (in) "Multifunction input pin. When VPRG = GND, the device is in GS mode. When VPRG = VCC, the device is in DC mode. When VPRG = V(VPRG), DC register data can programmed into DC EEPROM with DCPRG=HIGH. EEPROM data = 3Fh (default)", 7 OUT0 (out) "Constant current output", 8 OUT1 (out) "Constant current output", 9 OUT2 (out) "Constant current output", 10 OUT3 (out) "Constant current output", 11 OUT4 (out) "Constant current output", 12 OUT5 (out) "Constant current output", 13 OUT6 (out) "Constant current output", 14 OUT7 (out) "Constant current output", 15 OUT8 (out) "Constant current output", 16 OUT9 (out) "Constant current output", 17 OUT10 (out) "Constant current output", 18 OUT11 (out) "Constant current output", 19 OUT12 (out) "Constant current output", 20 OUT13 (out) "Constant current output", 21 OUT14 (out) "Constant current output", 22 OUT15 (out) "Constant current output", 23 XERR (hiz) "Error output. Open-drain output. XERR goes low when LOD or TEF is detected.", 24 SOUT (out) "Serial data output", 25 GSCLK (in) "Reference clock for Grayscale PWM control.", 26 DCPRG (in) "Switch DC data input. When DCPRG = L, DC is connected to EEPROM. When DCPRG = H, DC is connected to the DC register. DCPRG also controls EEPROM writing, when VPRG = V(PRG). EEPROM data = 3Fh (default)", 27 IREF (in) "Reference current terminal", 28 VCC (power) "Power-supply voltage", 29 EP

## TLC5940PWPG4
designator U?
16-Channel LED Driver with EEprom DOT Correction & Grayscale PWM Control, 3 to 5.5 V, -40 to 85 degC, 28-pin SOP (PWP28), Green (RoHS & no Sb/Br); Manufacturer: Texas Instruments; PartNumber: TLC5940PWPG4; Rating: Catalog; Vin(Max)(V): 5.5; Vin(Min)(V): 3; DatasheetVersion: SLVS515C; PackageVersion: 4073225-6/I; PackageReference: PWP28-5720X1950TP; PackageDescription: 28-Pin Plastic Small Outline, Body 4.4 x 9.7 mm, Pitch 0.65 mm; Supplier 1: Digi-Key; Supplier Part Number 1: TLC5940PWPG4-ND; Supplier 2: Mouser; Supplier Part Number 2: 595-TLC5940PWPG4; Eco-Plan: Green (RoHS & no Sb/Br); SubFamily: LED Driver; Mounting Technology: Surface Mount; Code_JEDEC: MO-153; ComponentLink1Description: Manufacturer URL; ComponentLink1URL: http://www.ti.com/; ComponentLink2Description: Datasheet; ComponentLink2URL: http://www.ti.com/general/docs/lit/getliterature.tsp?genericPartNumber=TLC5940&fileType=pdf; ComponentLink3Description: Package Specification; ComponentLink3URL: http://www.ti.com/litv/pdf/mpds373
footprint TI-PWP28-5720X1950TP_N (SOP, 28-Leads, Body 9.7x4.4mm, Pitch 0.65mm, Thermal Pad 5.72 x 1.95mm, IPC Medium Density)
footprint TI-PWP28-5720X1950TP_L (SOP, 28-Leads, Body 9.7x4.4mm, Pitch 0.65mm, Thermal Pad 5.72 x 1.95mm, IPC High Density)
footprint TI-PWP28-5720X1950TP_M (SOP, 28-Leads, Body 9.7x4.4mm, Pitch 0.65mm, Thermal Pad 5.72 x 1.95mm, IPC Low Density)
pins: 1 GND (power) "Ground", 2 BLANK (in) "Blank all outputs. When BLANK = H, all OUTn outputs are forced OFF. GS counter is also reset. When BLANK = L, OUTn are controlled by grayscale PWM control.", 3 XLAT (in) "Level triggered latch signal. When XLAT = high, the TLC5940 writes data from the input shift register to either GS register (VPRG = low) or DC register (VPRG = high). When XLAT = low, the data in GS or DC register is held (See Datasheet)", 4 SCLK (in) "Serial data shift clock", 5 SIN (in) "Serial data input", 6 VPRG (in) "Multifunction input pin. When VPRG = GND, the device is in GS mode. When VPRG = VCC, the device is in DC mode. When VPRG = V(VPRG), DC register data can programmed into DC EEPROM with DCPRG=HIGH. EEPROM data = 3Fh (default)", 7 OUT0 (out) "Constant current output", 8 OUT1 (out) "Constant current output", 9 OUT2 (out) "Constant current output", 10 OUT3 (out) "Constant current output", 11 OUT4 (out) "Constant current output", 12 OUT5 (out) "Constant current output", 13 OUT6 (out) "Constant current output", 14 OUT7 (out) "Constant current output", 15 OUT8 (out) "Constant current output", 16 OUT9 (out) "Constant current output", 17 OUT10 (out) "Constant current output", 18 OUT11 (out) "Constant current output", 19 OUT12 (out) "Constant current output", 20 OUT13 (out) "Constant current output", 21 OUT14 (out) "Constant current output", 22 OUT15 (out) "Constant current output", 23 XERR (hiz) "Error output. Open-drain output. XERR goes low when LOD or TEF is detected.", 24 SOUT (out) "Serial data output", 25 GSCLK (in) "Reference clock for Grayscale PWM control.", 26 DCPRG (in) "Switch DC data input. When DCPRG = L, DC is connected to EEPROM. When DCPRG = H, DC is connected to the DC register. DCPRG also controls EEPROM writing, when VPRG = V(PRG). EEPROM data = 3Fh (default)", 27 IREF (in) "Reference current terminal", 28 VCC (power) "Power-supply voltage", 29 EP

## TLC5940PWPR
designator U?
16-Channel LED Driver with EEprom DOT Correction & Grayscale PWM Control, 3 to 5.5 V, -40 to 85 degC, 28-pin SOP (PWP28), Green (RoHS & no Sb/Br); Manufacturer: Texas Instruments; PartNumber: TLC5940PWPR; Rating: Catalog; Vin(Max)(V): 5.5; Vin(Min)(V): 3; DatasheetVersion: SLVS515C; PackageVersion: 4073225-6/I; PackageReference: PWP28-5720X1950TP; PackageDescription: 28-Pin Plastic Small Outline, Body 4.4 x 9.7 mm, Pitch 0.65 mm; Supplier 1: Digi-Key; Supplier Part Number 1: TLC5940PWPR-ND; Supplier 2: Newark; Supplier Part Number 2: 08K4867; Supplier 3: Mouser; Supplier Part Number 3: 595-TLC5940PWPR; Eco-Plan: Green (RoHS & no Sb/Br); SubFamily: LED Driver; Mounting Technology: Surface Mount; Code_JEDEC: MO-153; ComponentLink1Description: Manufacturer URL; ComponentLink1URL: http://www.ti.com/; ComponentLink2Description: Datasheet; ComponentLink2URL: http://www.ti.com/general/docs/lit/getliterature.tsp?genericPartNumber=TLC5940&fileType=pdf; ComponentLink3Description: Package Specification; ComponentLink3URL: http://www.ti.com/litv/pdf/mpds373
footprint TI-PWP28-5720X1950TP_N (SOP, 28-Leads, Body 9.7x4.4mm, Pitch 0.65mm, Thermal Pad 5.72 x 1.95mm, IPC Medium Density)
footprint TI-PWP28-5720X1950TP_L (SOP, 28-Leads, Body 9.7x4.4mm, Pitch 0.65mm, Thermal Pad 5.72 x 1.95mm, IPC High Density)
footprint TI-PWP28-5720X1950TP_M (SOP, 28-Leads, Body 9.7x4.4mm, Pitch 0.65mm, Thermal Pad 5.72 x 1.95mm, IPC Low Density)
pins: 1 GND (power) "Ground", 2 BLANK (in) "Blank all outputs. When BLANK = H, all OUTn outputs are forced OFF. GS counter is also reset. When BLANK = L, OUTn are controlled by grayscale PWM control.", 3 XLAT (in) "Level triggered latch signal. When XLAT = high, the TLC5940 writes data from the input shift register to either GS register (VPRG = low) or DC register (VPRG = high). When XLAT = low, the data in GS or DC register is held (See Datasheet)", 4 SCLK (in) "Serial data shift clock", 5 SIN (in) "Serial data input", 6 VPRG (in) "Multifunction input pin. When VPRG = GND, the device is in GS mode. When VPRG = VCC, the device is in DC mode. When VPRG = V(VPRG), DC register data can programmed into DC EEPROM with DCPRG=HIGH. EEPROM data = 3Fh (default)", 7 OUT0 (out) "Constant current output", 8 OUT1 (out) "Constant current output", 9 OUT2 (out) "Constant current output", 10 OUT3 (out) "Constant current output", 11 OUT4 (out) "Constant current output", 12 OUT5 (out) "Constant current output", 13 OUT6 (out) "Constant current output", 14 OUT7 (out) "Constant current output", 15 OUT8 (out) "Constant current output", 16 OUT9 (out) "Constant current output", 17 OUT10 (out) "Constant current output", 18 OUT11 (out) "Constant current output", 19 OUT12 (out) "Constant current output", 20 OUT13 (out) "Constant current output", 21 OUT14 (out) "Constant current output", 22 OUT15 (out) "Constant current output", 23 XERR (hiz) "Error output. Open-drain output. XERR goes low when LOD or TEF is detected.", 24 SOUT (out) "Serial data output", 25 GSCLK (in) "Reference clock for Grayscale PWM control.", 26 DCPRG (in) "Switch DC data input. When DCPRG = L, DC is connected to EEPROM. When DCPRG = H, DC is connected to the DC register. DCPRG also controls EEPROM writing, when VPRG = V(PRG). EEPROM data = 3Fh (default)", 27 IREF (in) "Reference current terminal", 28 VCC (power) "Power-supply voltage", 29 EP

## TLC5940PWPRG4
designator U?
16-Channel LED Driver with EEprom DOT Correction & Grayscale PWM Control, 3 to 5.5 V, -40 to 85 degC, 28-pin SOP (PWP28), Green (RoHS & no Sb/Br); Manufacturer: Texas Instruments; PartNumber: TLC5940PWPRG4; Rating: Catalog; Vin(Max)(V): 5.5; Vin(Min)(V): 3; DatasheetVersion: SLVS515C; PackageVersion: 4073225-6/I; PackageReference: PWP28-5720X1950TP; PackageDescription: 28-Pin Plastic Small Outline, Body 4.4 x 9.7 mm, Pitch 0.65 mm; Supplier 1: Digi-Key; Supplier Part Number 1: TLC5940PWPRG4-ND; Supplier 2: Mouser; Supplier Part Number 2: 595-TLC5940PWPRG4; Eco-Plan: Green (RoHS & no Sb/Br); SubFamily: LED Driver; Mounting Technology: Surface Mount; Code_JEDEC: MO-153; ComponentLink1Description: Manufacturer URL; ComponentLink1URL: http://www.ti.com/; ComponentLink2Description: Datasheet; ComponentLink2URL: http://www.ti.com/general/docs/lit/getliterature.tsp?genericPartNumber=TLC5940&fileType=pdf; ComponentLink3Description: Package Specification; ComponentLink3URL: http://www.ti.com/litv/pdf/mpds373
footprint TI-PWP28-5720X1950TP_N (SOP, 28-Leads, Body 9.7x4.4mm, Pitch 0.65mm, Thermal Pad 5.72 x 1.95mm, IPC Medium Density)
footprint TI-PWP28-5720X1950TP_L (SOP, 28-Leads, Body 9.7x4.4mm, Pitch 0.65mm, Thermal Pad 5.72 x 1.95mm, IPC High Density)
footprint TI-PWP28-5720X1950TP_M (SOP, 28-Leads, Body 9.7x4.4mm, Pitch 0.65mm, Thermal Pad 5.72 x 1.95mm, IPC Low Density)
pins: 1 GND (power) "Ground", 2 BLANK (in) "Blank all outputs. When BLANK = H, all OUTn outputs are forced OFF. GS counter is also reset. When BLANK = L, OUTn are controlled by grayscale PWM control.", 3 XLAT (in) "Level triggered latch signal. When XLAT = high, the TLC5940 writes data from the input shift register to either GS register (VPRG = low) or DC register (VPRG = high). When XLAT = low, the data in GS or DC register is held (See Datasheet)", 4 SCLK (in) "Serial data shift clock", 5 SIN (in) "Serial data input", 6 VPRG (in) "Multifunction input pin. When VPRG = GND, the device is in GS mode. When VPRG = VCC, the device is in DC mode. When VPRG = V(VPRG), DC register data can programmed into DC EEPROM with DCPRG=HIGH. EEPROM data = 3Fh (default)", 7 OUT0 (out) "Constant current output", 8 OUT1 (out) "Constant current output", 9 OUT2 (out) "Constant current output", 10 OUT3 (out) "Constant current output", 11 OUT4 (out) "Constant current output", 12 OUT5 (out) "Constant current output", 13 OUT6 (out) "Constant current output", 14 OUT7 (out) "Constant current output", 15 OUT8 (out) "Constant current output", 16 OUT9 (out) "Constant current output", 17 OUT10 (out) "Constant current output", 18 OUT11 (out) "Constant current output", 19 OUT12 (out) "Constant current output", 20 OUT13 (out) "Constant current output", 21 OUT14 (out) "Constant current output", 22 OUT15 (out) "Constant current output", 23 XERR (hiz) "Error output. Open-drain output. XERR goes low when LOD or TEF is detected.", 24 SOUT (out) "Serial data output", 25 GSCLK (in) "Reference clock for Grayscale PWM control.", 26 DCPRG (in) "Switch DC data input. When DCPRG = L, DC is connected to EEPROM. When DCPRG = H, DC is connected to the DC register. DCPRG also controls EEPROM writing, when VPRG = V(PRG). EEPROM data = 3Fh (default)", 27 IREF (in) "Reference current terminal", 28 VCC (power) "Power-supply voltage", 29 EP

## TLC5940QPWPREP
designator U?
Enhanced Product 16-Channel LED Driver with DOT Correction and Grayscale PWM Control, 3 to 5.5 V, -40 to 125 degC, 28-pin SOP (PWP28), Green (RoHS & no Sb/Br); Manufacturer: Texas Instruments; PartNumber: TLC5940QPWPREP; Iout(Max)(A): 0.13; Rating: HiRel Enhanced Product; Vin(Max)(V): 5.5; Vin(Min)(V): 3; DatasheetVersion: SLVSA51D; PackageVersion: 4073225-6/I; PackageReference: PWP28-5720X1950TP; PackageDescription: 28-Pin Plastic Small Outline, Body 4.4 x 9.7 mm, Pitch 0.65 mm; Supplier 1: Digi-Key; Supplier Part Number 1: 296-27433-2-ND; Supplier 2: Digi-Key; Supplier Part Number 2: 296-27433-1-ND; Supplier 3: Digi-Key; Supplier Part Number 3: 296-27433-6-ND; Supplier 4: Newark; Supplier Part Number 4: 79R8509; Supplier 5: Mouser; Supplier Part Number 5: 595-TLC5940QPWPREP; Eco-Plan: Green (RoHS & no Sb/Br); SubFamily: LED Driver; Mounting Technology: Surface Mount; Code_JEDEC: MO-153; ComponentLink1Description: Manufacturer URL; ComponentLink1URL: http://www.ti.com/; ComponentLink2Description: Datasheet; ComponentLink2URL: http://www.ti.com/general/docs/lit/getliterature.tsp?genericPartNumber=TLC5940-EP&fileType=pdf; ComponentLink3Description: Package Specification; ComponentLink3URL: http://www.ti.com/litv/pdf/mpds373
footprint TI-PWP28-5720X1950TP_N (SOP, 28-Leads, Body 9.7x4.4mm, Pitch 0.65mm, Thermal Pad 5.72 x 1.95mm, IPC Medium Density)
footprint TI-PWP28-5720X1950TP_L (SOP, 28-Leads, Body 9.7x4.4mm, Pitch 0.65mm, Thermal Pad 5.72 x 1.95mm, IPC High Density)
footprint TI-PWP28-5720X1950TP_M (SOP, 28-Leads, Body 9.7x4.4mm, Pitch 0.65mm, Thermal Pad 5.72 x 1.95mm, IPC Low Density)
pins: 1 GND (power) "Ground", 2 BLANK (in) "Blank all outputs. When BLANK = H, all OUTn outputs are forced OFF. GS counter is also reset. When BLANK = L, OUTn are controlled by grayscale PWM control.", 3 XLAT (in) "Level triggered latch signal. When XLAT = high, the TLC5940 writes data from the input shift register to either GS register (VPRG = low) or DC register (VPRG = high). When XLAT = low, the data in GS or DC register is held (See Datasheet)", 4 SCLK (in) "Serial data shift clock", 5 SIN (in) "Serial data input", 6 VPRG (in) "Multifunction input pin. When VPRG = GND, the device is in GS mode. When VPRG = VCC, the device is in DC mode. When VPRG = V(VPRG), DC register data can programmed into DC EEPROM with DCPRG=HIGH. EEPROM data = 3Fh (default)", 7 OUT0 (out) "Constant current output", 8 OUT1 (out) "Constant current output", 9 OUT2 (out) "Constant current output", 10 OUT3 (out) "Constant current output", 11 OUT4 (out) "Constant current output", 12 OUT5 (out) "Constant current output", 13 OUT6 (out) "Constant current output", 14 OUT7 (out) "Constant current output", 15 OUT8 (out) "Constant current output", 16 OUT9 (out) "Constant current output", 17 OUT10 (out) "Constant current output", 18 OUT11 (out) "Constant current output", 19 OUT12 (out) "Constant current output", 20 OUT13 (out) "Constant current output", 21 OUT14 (out) "Constant current output", 22 OUT15 (out) "Constant current output", 23 XERR (hiz) "Error output. Open-drain output. XERR goes low when LOD or TEF is detected.", 24 SOUT (out) "Serial data output", 25 GSCLK (in) "Reference clock for Grayscale PWM control.", 26 DCPRG (in) "Switch DC data input. When DCPRG = L, DC is connected to EEPROM. When DCPRG = H, DC is connected to the DC register. DCPRG also controls EEPROM writing, when VPRG = V(PRG). EEPROM data = 3Fh (default)", 27 IREF (in) "Reference current terminal", 28 VCC (power) "Power-supply voltage", 29 EP